# EAGLE library part 50499-004 (library con-aces-50499-series)
ACES CONNECTORS 50499 SERIES ACES Connecors 50499 <https://www.acesconn.com/series/50499-xxxxx-xxx/1229>
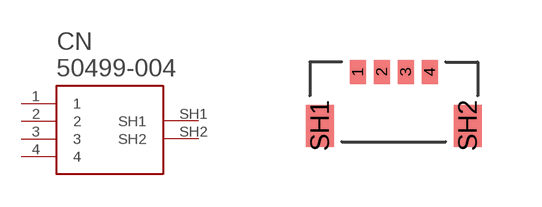
[diagram p0: symbol with the pads of 50499-004; footprint 50499-004]

Designator prefix CN

## 50499-004  [50499-004]
1  1
2  2
3  3
4  4
SH1  SH1
SH2  SH2

## Footprint 50499-004 (pad centres in mm)
smd 0.4 x 0.6: 1 -0.9,0; 2 -0.3,0; 3 0.3,0; 4 0.9,0
smd 0.7 x 1.05: SH1 -1.85,-1.35; SH2 1.85,-1.35